# Altium footprint library PCB - CONNECTOR - SAMTEC IPL1-102-01-YYY-S-K.PCBLIB: 1 footprints
Each footprint in its own frame and in the unit in brackets; x right, y up, seen from the top. Pads: shape width x height; smd on the part's side, far side on the other; paste and mask are expansions set on the pad; w line width, h text height; cw(c..) or ccw(c..) is an arc to the next point about the centre after c.
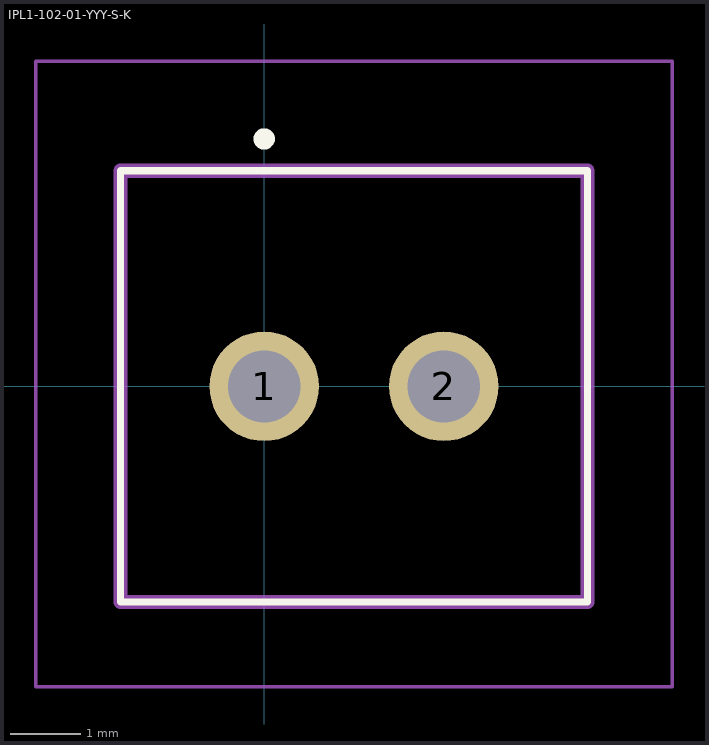
[diagram p0: the footprint, top view; thin cyan lines are the x and y axes]

## IPL1-102-01-YYY-S-K [mm]
pads (2):
  round 1.55 hole 1.02: 1(0,0) 2(2.54,0)
Top Overlay:
  circle w0.2: c0,3.5 r0.05
  lines w0.1: -2.03,-3.05 4.57,-3.05 4.57,3.05 -2.03,3.05 -2.03,-3.05
Top Assembly:
  lines w0.2: -2.03,-3.05 4.57,-3.05 4.57,3.05 -2.03,3.05 -2.03,-3.05
Top Courtyard:
  lines w0.05: -3.23,-4.25 5.77,-4.25 5.77,4.6 -3.23,4.6 -3.23,-4.25
Top Designator:
  text ".Designator" at -3.048,6.35 h1
Top Value (Mech13):
  text ".Comment" at -3.048,5.334 h1
3D body "IPL1-102-01-L-S-K.stp": height 8.13, standoff -3.05, extent -2.032,-3.81 4.572,2.794